# Altium schematic symbol library E22-400T22S.SchLib: 1 symbol
Pins are listed as number, name and electrical type; pins without a type are passive.

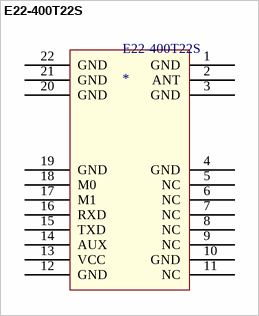
[diagram p0: symbol E22-400T22S]

## E22-400T22S
designator E22-400T22S
footprint E22-400T22S (Chip Array, Concave, 22-Leads, Pitch 1.27mm,  Body 26.00x16.00mm,  IPC Low Density)
pins: 1 GND, 2 ANT, 3 GND, 4 GND, 5 NC, 6 NC, 7 NC, 8 NC, 9 NC, 10 GND, 11 NC, 12 GND, 13 VCC, 14 AUX, 15 TXD, 16 RXD, 17 M1, 18 M0, 19 GND, 20 GND, 21 GND, 22 GND